# EAGLE library part 47346-0001 (library 47346-0001)
CONN RCPT 5POS MICRO USB R/A SMD
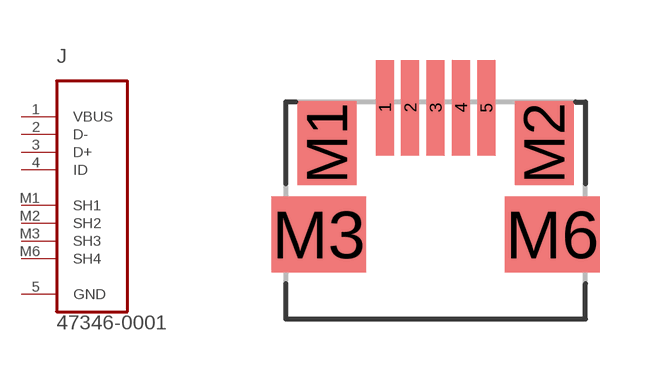
[diagram p0: symbol with the pads of MOLEX_47346-0001; footprint MOLEX_47346-0001]

Designator prefix J

## 47346-0001 (AVAILABILITY: Good; DESCRIPTION: Micro-USB%20B%20Receptacle%20with%20Flange%2C%20Bottom%20Mount%2C%20SMT%2C%20Lead-Free; MF: Molex; MP: 47346-0001; PACKAGE: None; PRICE: 0.54 USD)  [MOLEX_47346-0001]
1  VBUS  pwr
2  D-
3  D+
4  ID
5  GND  sup
M1  SH1
M2  SH2
M3  SH3
M6  SH4

## Footprint MOLEX_47346-0001 (pad centres in mm)
MICRO USB R/A-473460001
smd 0.45 x 2.388: 1 -1.27,0.508; 2 -0.635,0.508; 3 0,0.508; 4 0.635,0.508; 5 1.27,0.508
smd 1.475 x 2.1: M1 -2.718,-0.381; M2 2.718,-0.381
smd 2.375 x 1.9: M3 -2.921,-2.667; M6 2.921,-2.667